# EAGLE library part NXW-10 (library con-ninigi)
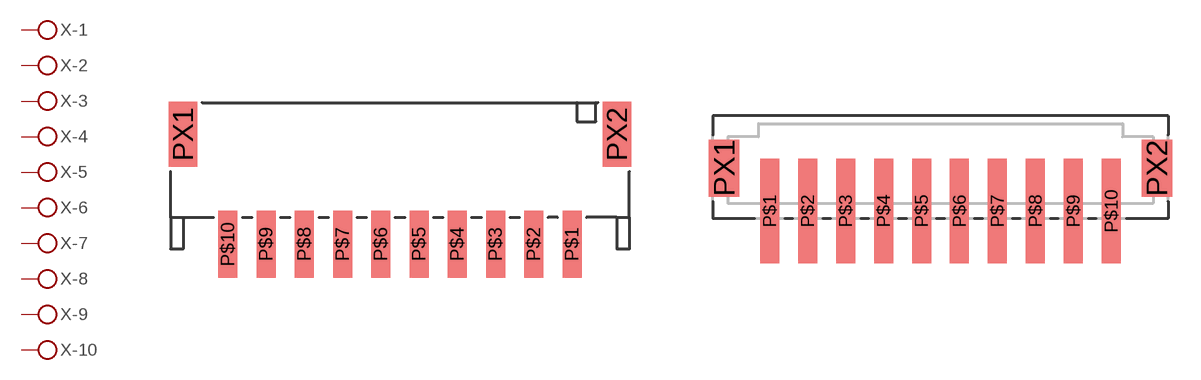
[diagram p1: symbol with the pads of NXW-10SMDK; footprints NXW-10SMDK, NXW-10SMD]

Designator prefix X; gates -1=PIN -2=PIN -3=PIN -4=PIN -5=PIN -6=PIN -7=PIN -8=PIN -9=PIN -10=PIN

## NXW-10SMDK  [NXW-10SMDK]
P$1  -1:P$1
P$2  -2:P$1
P$3  -3:P$1
P$4  -4:P$1
P$5  -5:P$1
P$6  -6:P$1
P$7  -7:P$1
P$8  -8:P$1
P$9  -9:P$1
P$10  -10:P$1

## NXW-10SMD  [NXW-10SMD]
Pads as for NXW-10SMDK

## Footprint NXW-10SMDK (pad centres in mm)
smd 1 x 3.5: P$1 9,0; P$2 7,0; P$3 5,0; P$4 3,0; P$5 1,0; P$6 -1,0; P$7 -3,0; P$8 -5,0; P$9 -7,0; P$10 -9,0
smd 1.5 x 3.4: PX1 -11.35,5.75; PX2 11.35,5.75

## Footprint NXW-10SMD (pad centres in mm)
smd 1 x 5.5: P$1 -9,0; P$2 -7,0; P$3 -5,0; P$4 -3,0; P$5 -1,0; P$6 1,0; P$7 3,0; P$8 5,0; P$9 7,0; P$10 9,0
smd 1.6 x 3: PX1 -11.4,2.25; PX2 11.4,2.25